# EAGLE library part RR_4X_B (library #PaJa_30_scr)
Odporova sit - 4x
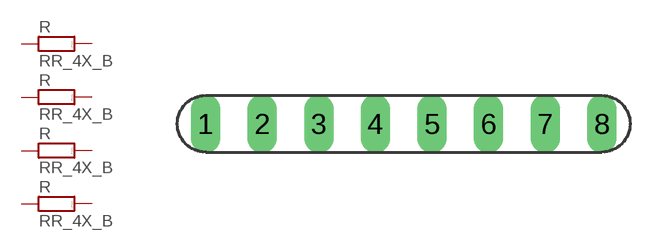
[diagram p27: symbol with the pads of RR_4X_B; footprint RR_4X_B]

Designator prefix R; gates 1=RR 2=RR 3=RR 4=RR

## RR_4X_B  [RR_4X_B]
1  1:1  pas
2  1:2  pas
3  2:1  pas
4  2:2  pas
5  3:1  pas
6  3:2  pas
7  4:1  pas
8  4:2  pas

## Footprint RR_4X_B (pad centres in mm)
drill 0.813 pad 1.27 long: 1 -8.89,0; 2 -6.35,0; 3 -3.81,0; 4 -1.27,0; 5 1.27,0; 6 3.81,0; 7 6.35,0; 8 8.89,0